# EAGLE library part OPA1632 (library op-amp)
OP-AMP Audio Grade, Fully-Differential
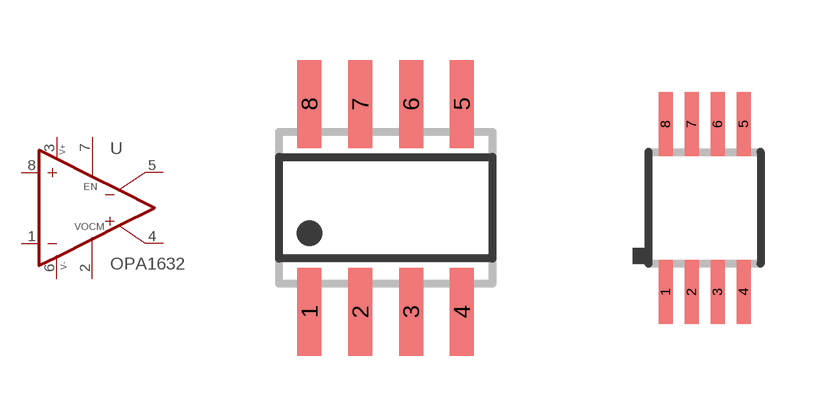
[diagram p42: symbol with the pads of SO08; footprints SO08, MSOP08-PP]

Designator prefix U

## OPA1632D  [SO08]
1  -IN  in
2  VOCM  in
3  V+  pwr
4  +OUT  out
5  -OUT  out
6  V-  pwr
7  EN  in
8  +IN  in

## OPA1632DGN  [MSOP08-PP]
Pads as for SO08

## Footprint SO08 (pad centres in mm)
SMALL OUTLINE INTEGRATED CIRCUIT body 3.9 mm/JEDEC MS-012AA
smd 0.6 x 2.2: 1 -1.905,-2.6; 2 -0.635,-2.6; 3 0.635,-2.6; 4 1.905,-2.6; 5 1.905,2.6; 6 0.635,2.6; 7 -0.635,2.6; 8 -1.905,2.6

## Footprint MSOP08-PP (pad centres in mm)
MSOP 8 - PowerPAD pitch 0.65 mm, DGN package Texas Instruments
smd 0.35 x 1.6: 1 -0.975,-2.1; 2 -0.325,-2.1; 3 0.325,-2.1; 4 0.975,-2.1; 5 0.975,2.1; 6 0.325,2.1; 7 -0.325,2.1; 8 -0.975,2.1